# Altium footprint library SOT-23-3.PcbLib: 1 footprints
Each footprint in its own frame and in the unit in brackets; x right, y up, seen from the top. Pads: shape width x height; smd on the part's side, far side on the other; paste and mask are expansions set on the pad; w line width, h text height; cw(c..) or ccw(c..) is an arc to the next point about the centre after c.
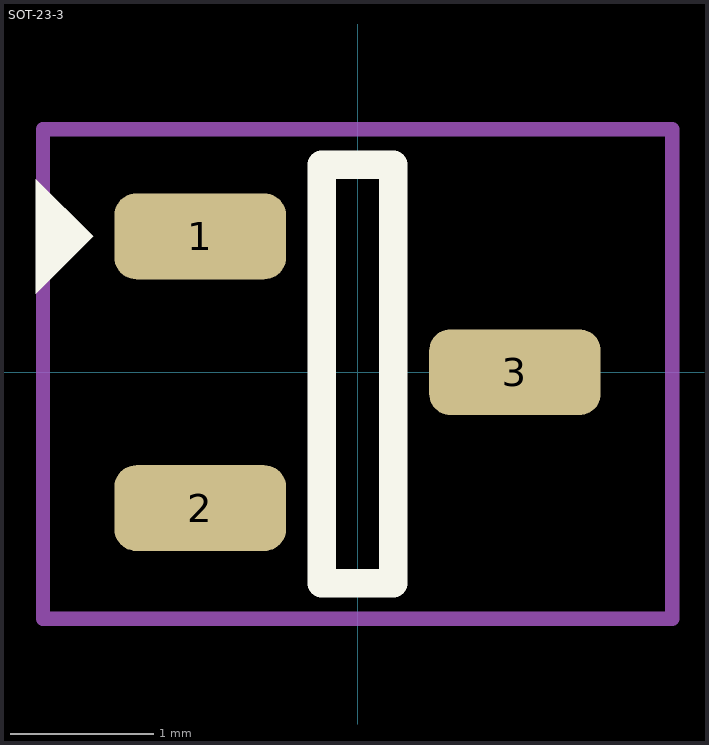
[diagram p0: the footprint, top view; thin cyan lines are the x and y axes]

## SOT-23-3 [mm]
pads (3):
  rrect50% 1.2x0.6 smd: 1(-1.1,0.95) 2(-1.1,-0.95) 3(1.1,0)
Top Overlay:
  region: -2.25,0.55 -2.25,1.35 -1.85,0.95
  lines w0.2: -0.25,-1.475 -0.25,1.45 0.25,1.45 0.25,-1.475 -0.25,-1.475
Top Courtyard:
  lines w0.1: -2.2,-1.725 -2.2,1.7 2.2,1.7 2.2,-1.725 -1.175,-1.725 -2.2,-1.725
3D body "NOPB.STEP": height 1.12, standoff 0, extent -1.185,-1.475 1.185,1.445